# EAGLE library part TLC271CD (library Z_GessIOMod)
OPERATIONAL AMPLIFIERS
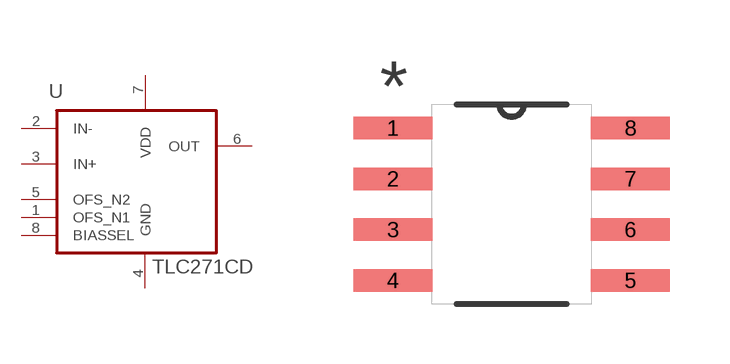
[diagram p14: symbol with the pads of SOIC127P600X175-8N; footprint SOIC127P600X175-8N]

Designator prefix U

## TLC271CD (MPN: TLC271CD; OC_FARNELL: 1106021; OC_NEWARK: 08F9082; PACKAGE: SOIC-8; SUPPLIER: TI)  [SOIC127P600X175-8N]
1  OFS_N1  pas
2  IN-  in
3  IN+  in
4  GND  pas
5  OFS_N2  pas
6  OUT  out
7  VDD  pwr
8  BIASSEL  pas

## Footprint SOIC127P600X175-8N (pad centres in mm)
smd 1.981 x 0.559: 1 -2.972,1.905; 2 -2.972,0.635; 3 -2.972,-0.635; 4 -2.972,-1.905; 5 2.972,-1.905; 6 2.972,-0.635; 7 2.972,0.635; 8 2.972,1.905